# Altium schematic symbol library 74ACT14.SchLib: 1 symbol
Pins are listed as number, name and electrical type; pins without a type are passive.

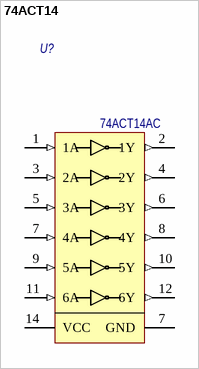
[diagram p0: symbol 74ACT14]

## 74ACT14
designator U?  Наименование: 74ACT14AC  (hidden comment: 74ACT14)
HEX Inverters with Schmitt Trigger Input; Потребление, Вт: 0,1; Назначение: HEX Inverters with Schmitt Trigger Input; ComponentLink1Description: DataSheet; ComponentLink1URL: https://www.ti.com/lit/ds/symlink/cd74act14.pdf
footprint SOIC-14
pins: 1 1A (in) "No Connect.", 2 1Y (out) "No Connect.", 3 2A (in) "No Connect.", 4 2Y (out) "No Connect.", 5 3A (in) "No Connect.", 6 3Y (out) "No Connect.", 7 4A (in) "No Connect.", 7 GND (power) "No Connect.", 8 4Y (out) "No Connect.", 9 5A (in) "No Connect.", 10 5Y (out) "No Connect.", 11 6A (in) "No Connect.", 12 6Y (out) "No Connect.", 14 VCC (power) "No Connect."